# Altium integrated library TC2050-IDC-NL.IntLib: 1 symbol
Pins are listed as number, name and electrical type; pins without a type are passive.

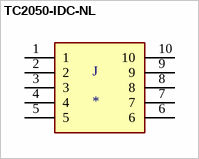
[diagram p0: symbol TC2050-IDC-NL]

## TC2050-IDC-NL
designator J
Plug-Of-Nailsâ„¢ Adapter Cable; MP: TC2050-IDC-NL; MF: Tag-Connect LLC; Availability: Unavailable; Package: None; Value: *; Price: None; SnapEDA_Link: https://www.snapeda.com/parts/TC2050-IDC-NL/Tag-Connect%20LLC/view-part/134534/?ref=snap
footprint TAG-CONNECT_TC2050-IDC-NL
pins: 1, 2, 3, 4, 5, 6, 7, 8, 9, 10